# Altium integrated library Proto-Pi.Library.IntLib: 31 symbols
Pins are listed as number, name and electrical type; pins without a type are passive.

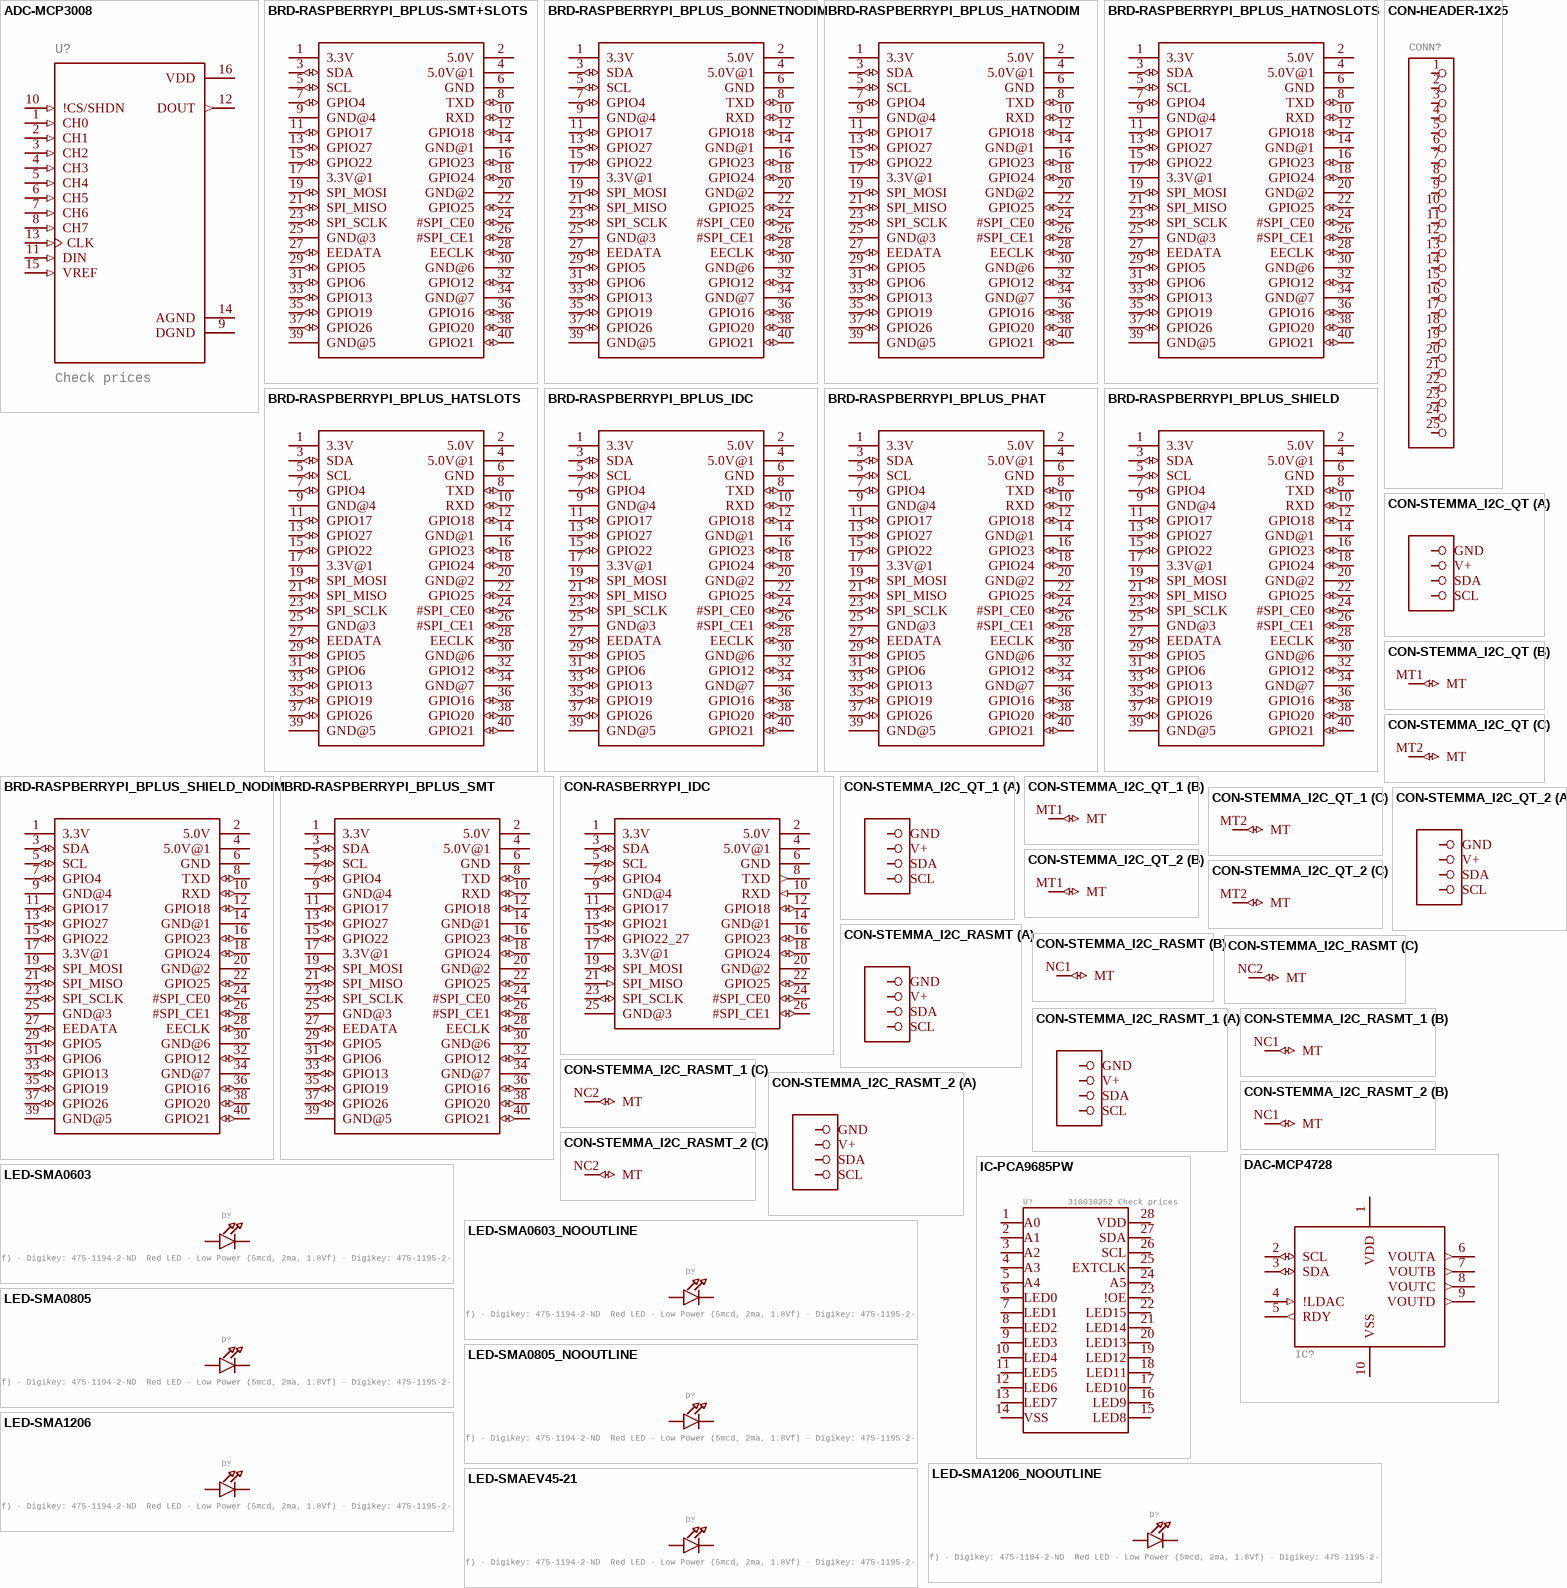
[diagram p0: symbols ADC-MCP3008 to LED-SMAEV45-21]

## ADC-MCP3008
designator U?, comment Check prices
GateName_1: A; SymbolName_1: MCP3008-I/SL; DeviceSetName: ADC-MCP3008; LibraryName: Proto-Pi; Package: SOIC127P600X175-16N; ARROW_PN: ?; DATASHEET: ?; DIGI-KEY_PN: ?; MANUFACTURER: ?; MOUSER_PN: ?; PACKAGE: ?; PART_NUMBER: ?; TEMP_HIGH: ?; TEMP_LOW: ?; TOLERANCE: ?; TYPE: ?; WEIGHT_MG: ?
footprint SOIC127P600X175-16N
pins: 1 CH0 (in), 2 CH1 (in), 3 CH2 (in), 4 CH3 (in), 5 CH4 (in), 6 CH5 (in), 7 CH6 (in), 8 CH7 (in), 9 DGND (power), 10 !CS/SHDN (in), 11 DIN (in), 12 DOUT (out), 13 CLK (in), 14 AGND (power), 15 VREF (in), 16 VDD (power)

## BRD-RASPBERRYPI_BPLUS-SMT+SLOTS
designator RPI?
GateName_1: G$1; SymbolName_1: RASPBERRYPI_BPLUS; DeviceName: -SMT+SLOTS; DeviceSetName: BRD-RASPBERRYPI_BPLUS; LibraryName: Proto-Pi; Package: PI_HAT_SMT_SLOTS
footprint PI_HAT_SMT_SLOTS
pins: 1 3.3V (power), 2 5.0V (power), 3 SDA (io), 4 5.0V@1 (power), 5 SCL (io), 6 GND (power), 7 GPIO4 (io), 8 TXD (io), 9 GND@4 (power), 10 RXD (io), 11 GPIO17 (io), 12 GPIO18 (io), 13 GPIO27 (io), 14 GND@1 (power), 15 GPIO22 (io), 16 GPIO23 (io), 17 3.3V@1 (power), 18 GPIO24 (io), 19 SPI_MOSI (io), 20 GND@2 (power), 21 SPI_MISO (io), 22 GPIO25 (io), 23 SPI_SCLK (io), 24 #SPI_CE0 (io), 25 GND@3 (power), 26 #SPI_CE1 (io), 27 EEDATA (io), 28 EECLK (io), 29 GPIO5 (io), 30 GND@6 (power), 31 GPIO6 (io), 32 GPIO12 (io), 33 GPIO13 (io), 34 GND@7 (power), 35 GPIO19 (io), 36 GPIO16 (io), 37 GPIO26 (io), 38 GPIO20 (io), 39 GND@5 (power), 40 GPIO21 (io)

## BRD-RASPBERRYPI_BPLUS_BONNETNODIM
designator RPI?
GateName_1: G$1; SymbolName_1: RASPBERRYPI_BPLUS; DeviceName: _BONNETNODIM; DeviceSetName: BRD-RASPBERRYPI_BPLUS; LibraryName: Proto-Pi; Package: PI_BONNET_NODIM
footprint PI_BONNET_NODIM
pins: 1 3.3V (power), 2 5.0V (power), 3 SDA (io), 4 5.0V@1 (power), 5 SCL (io), 6 GND (power), 7 GPIO4 (io), 8 TXD (io), 9 GND@4 (power), 10 RXD (io), 11 GPIO17 (io), 12 GPIO18 (io), 13 GPIO27 (io), 14 GND@1 (power), 15 GPIO22 (io), 16 GPIO23 (io), 17 3.3V@1 (power), 18 GPIO24 (io), 19 SPI_MOSI (io), 20 GND@2 (power), 21 SPI_MISO (io), 22 GPIO25 (io), 23 SPI_SCLK (io), 24 #SPI_CE0 (io), 25 GND@3 (power), 26 #SPI_CE1 (io), 27 EEDATA (io), 28 EECLK (io), 29 GPIO5 (io), 30 GND@6 (power), 31 GPIO6 (io), 32 GPIO12 (io), 33 GPIO13 (io), 34 GND@7 (power), 35 GPIO19 (io), 36 GPIO16 (io), 37 GPIO26 (io), 38 GPIO20 (io), 39 GND@5 (power), 40 GPIO21 (io)

## BRD-RASPBERRYPI_BPLUS_HATNODIM
designator RPI?
GateName_1: G$1; SymbolName_1: RASPBERRYPI_BPLUS; DeviceName: _HATNODIM; DeviceSetName: BRD-RASPBERRYPI_BPLUS; LibraryName: Proto-Pi; Package: PI_HAT_NODIM
footprint PI_HAT_NODIM
pins: 1 3.3V (power), 2 5.0V (power), 3 SDA (io), 4 5.0V@1 (power), 5 SCL (io), 6 GND (power), 7 GPIO4 (io), 8 TXD (io), 9 GND@4 (power), 10 RXD (io), 11 GPIO17 (io), 12 GPIO18 (io), 13 GPIO27 (io), 14 GND@1 (power), 15 GPIO22 (io), 16 GPIO23 (io), 17 3.3V@1 (power), 18 GPIO24 (io), 19 SPI_MOSI (io), 20 GND@2 (power), 21 SPI_MISO (io), 22 GPIO25 (io), 23 SPI_SCLK (io), 24 #SPI_CE0 (io), 25 GND@3 (power), 26 #SPI_CE1 (io), 27 EEDATA (io), 28 EECLK (io), 29 GPIO5 (io), 30 GND@6 (power), 31 GPIO6 (io), 32 GPIO12 (io), 33 GPIO13 (io), 34 GND@7 (power), 35 GPIO19 (io), 36 GPIO16 (io), 37 GPIO26 (io), 38 GPIO20 (io), 39 GND@5 (power), 40 GPIO21 (io)

## BRD-RASPBERRYPI_BPLUS_HATNOSLOTS
designator RPI?
GateName_1: G$1; SymbolName_1: RASPBERRYPI_BPLUS; DeviceName: _HATNOSLOTS; DeviceSetName: BRD-RASPBERRYPI_BPLUS; LibraryName: Proto-Pi; Package: PI_HAT_NOSLOTS
footprint PI_HAT_NOSLOTS
pins: 1 3.3V (power), 2 5.0V (power), 3 SDA (io), 4 5.0V@1 (power), 5 SCL (io), 6 GND (power), 7 GPIO4 (io), 8 TXD (io), 9 GND@4 (power), 10 RXD (io), 11 GPIO17 (io), 12 GPIO18 (io), 13 GPIO27 (io), 14 GND@1 (power), 15 GPIO22 (io), 16 GPIO23 (io), 17 3.3V@1 (power), 18 GPIO24 (io), 19 SPI_MOSI (io), 20 GND@2 (power), 21 SPI_MISO (io), 22 GPIO25 (io), 23 SPI_SCLK (io), 24 #SPI_CE0 (io), 25 GND@3 (power), 26 #SPI_CE1 (io), 27 EEDATA (io), 28 EECLK (io), 29 GPIO5 (io), 30 GND@6 (power), 31 GPIO6 (io), 32 GPIO12 (io), 33 GPIO13 (io), 34 GND@7 (power), 35 GPIO19 (io), 36 GPIO16 (io), 37 GPIO26 (io), 38 GPIO20 (io), 39 GND@5 (power), 40 GPIO21 (io)

## BRD-RASPBERRYPI_BPLUS_HATSLOTS
designator RPI?
GateName_1: G$1; SymbolName_1: RASPBERRYPI_BPLUS; DeviceName: _HATSLOTS; DeviceSetName: BRD-RASPBERRYPI_BPLUS; LibraryName: Proto-Pi; Package: PI_HAT_SLOTS
footprint PI_HAT_SLOTS
pins: 1 3.3V (power), 2 5.0V (power), 3 SDA (io), 4 5.0V@1 (power), 5 SCL (io), 6 GND (power), 7 GPIO4 (io), 8 TXD (io), 9 GND@4 (power), 10 RXD (io), 11 GPIO17 (io), 12 GPIO18 (io), 13 GPIO27 (io), 14 GND@1 (power), 15 GPIO22 (io), 16 GPIO23 (io), 17 3.3V@1 (power), 18 GPIO24 (io), 19 SPI_MOSI (io), 20 GND@2 (power), 21 SPI_MISO (io), 22 GPIO25 (io), 23 SPI_SCLK (io), 24 #SPI_CE0 (io), 25 GND@3 (power), 26 #SPI_CE1 (io), 27 EEDATA (io), 28 EECLK (io), 29 GPIO5 (io), 30 GND@6 (power), 31 GPIO6 (io), 32 GPIO12 (io), 33 GPIO13 (io), 34 GND@7 (power), 35 GPIO19 (io), 36 GPIO16 (io), 37 GPIO26 (io), 38 GPIO20 (io), 39 GND@5 (power), 40 GPIO21 (io)

## BRD-RASPBERRYPI_BPLUS_IDC
designator RPI?
GateName_1: G$1; SymbolName_1: RASPBERRYPI_BPLUS; DeviceName: _IDC; DeviceSetName: BRD-RASPBERRYPI_BPLUS; LibraryName: Proto-Pi; Package: 2X20
footprint 2X20
pins: 1 3.3V (power), 2 5.0V (power), 3 SDA (io), 4 5.0V@1 (power), 5 SCL (io), 6 GND (power), 7 GPIO4 (io), 8 TXD (io), 9 GND@4 (power), 10 RXD (io), 11 GPIO17 (io), 12 GPIO18 (io), 13 GPIO27 (io), 14 GND@1 (power), 15 GPIO22 (io), 16 GPIO23 (io), 17 3.3V@1 (power), 18 GPIO24 (io), 19 SPI_MOSI (io), 20 GND@2 (power), 21 SPI_MISO (io), 22 GPIO25 (io), 23 SPI_SCLK (io), 24 #SPI_CE0 (io), 25 GND@3 (power), 26 #SPI_CE1 (io), 27 EEDATA (io), 28 EECLK (io), 29 GPIO5 (io), 30 GND@6 (power), 31 GPIO6 (io), 32 GPIO12 (io), 33 GPIO13 (io), 34 GND@7 (power), 35 GPIO19 (io), 36 GPIO16 (io), 37 GPIO26 (io), 38 GPIO20 (io), 39 GND@5 (power), 40 GPIO21 (io)

## BRD-RASPBERRYPI_BPLUS_PHAT
designator RPI?
GateName_1: G$1; SymbolName_1: RASPBERRYPI_BPLUS; DeviceName: _PHAT; DeviceSetName: BRD-RASPBERRYPI_BPLUS; LibraryName: Proto-Pi; Package: PI_BONNET
footprint PI_BONNET
pins: 1 3.3V (power), 2 5.0V (power), 3 SDA (io), 4 5.0V@1 (power), 5 SCL (io), 6 GND (power), 7 GPIO4 (io), 8 TXD (io), 9 GND@4 (power), 10 RXD (io), 11 GPIO17 (io), 12 GPIO18 (io), 13 GPIO27 (io), 14 GND@1 (power), 15 GPIO22 (io), 16 GPIO23 (io), 17 3.3V@1 (power), 18 GPIO24 (io), 19 SPI_MOSI (io), 20 GND@2 (power), 21 SPI_MISO (io), 22 GPIO25 (io), 23 SPI_SCLK (io), 24 #SPI_CE0 (io), 25 GND@3 (power), 26 #SPI_CE1 (io), 27 EEDATA (io), 28 EECLK (io), 29 GPIO5 (io), 30 GND@6 (power), 31 GPIO6 (io), 32 GPIO12 (io), 33 GPIO13 (io), 34 GND@7 (power), 35 GPIO19 (io), 36 GPIO16 (io), 37 GPIO26 (io), 38 GPIO20 (io), 39 GND@5 (power), 40 GPIO21 (io)

## BRD-RASPBERRYPI_BPLUS_SHIELD
designator RPI?
GateName_1: G$1; SymbolName_1: RASPBERRYPI_BPLUS; DeviceName: _SHIELD; DeviceSetName: BRD-RASPBERRYPI_BPLUS; LibraryName: Proto-Pi; Package: RASPBERRYPI_BPLUS_SHIELD
footprint RASPBERRYPI_BPLUS_SHIELD
pins: 1 3.3V (power), 2 5.0V (power), 3 SDA (io), 4 5.0V@1 (power), 5 SCL (io), 6 GND (power), 7 GPIO4 (io), 8 TXD (io), 9 GND@4 (power), 10 RXD (io), 11 GPIO17 (io), 12 GPIO18 (io), 13 GPIO27 (io), 14 GND@1 (power), 15 GPIO22 (io), 16 GPIO23 (io), 17 3.3V@1 (power), 18 GPIO24 (io), 19 SPI_MOSI (io), 20 GND@2 (power), 21 SPI_MISO (io), 22 GPIO25 (io), 23 SPI_SCLK (io), 24 #SPI_CE0 (io), 25 GND@3 (power), 26 #SPI_CE1 (io), 27 EEDATA (io), 28 EECLK (io), 29 GPIO5 (io), 30 GND@6 (power), 31 GPIO6 (io), 32 GPIO12 (io), 33 GPIO13 (io), 34 GND@7 (power), 35 GPIO19 (io), 36 GPIO16 (io), 37 GPIO26 (io), 38 GPIO20 (io), 39 GND@5 (power), 40 GPIO21 (io)

## BRD-RASPBERRYPI_BPLUS_SHIELD_NODIM
designator RPI?
GateName_1: G$1; SymbolName_1: RASPBERRYPI_BPLUS; DeviceName: _SHIELD_NODIM; DeviceSetName: BRD-RASPBERRYPI_BPLUS; LibraryName: Proto-Pi; Package: RASPBERRYPI_BPLUS_SHIELD_NODIM
footprint RASPBERRYPI_BPLUS_SHIELD_NODIM
pins: 1 3.3V (power), 2 5.0V (power), 3 SDA (io), 4 5.0V@1 (power), 5 SCL (io), 6 GND (power), 7 GPIO4 (io), 8 TXD (io), 9 GND@4 (power), 10 RXD (io), 11 GPIO17 (io), 12 GPIO18 (io), 13 GPIO27 (io), 14 GND@1 (power), 15 GPIO22 (io), 16 GPIO23 (io), 17 3.3V@1 (power), 18 GPIO24 (io), 19 SPI_MOSI (io), 20 GND@2 (power), 21 SPI_MISO (io), 22 GPIO25 (io), 23 SPI_SCLK (io), 24 #SPI_CE0 (io), 25 GND@3 (power), 26 #SPI_CE1 (io), 27 EEDATA (io), 28 EECLK (io), 29 GPIO5 (io), 30 GND@6 (power), 31 GPIO6 (io), 32 GPIO12 (io), 33 GPIO13 (io), 34 GND@7 (power), 35 GPIO19 (io), 36 GPIO16 (io), 37 GPIO26 (io), 38 GPIO20 (io), 39 GND@5 (power), 40 GPIO21 (io)

## BRD-RASPBERRYPI_BPLUS_SMT
designator RPI?
GateName_1: G$1; SymbolName_1: RASPBERRYPI_BPLUS; DeviceName: _SMT; DeviceSetName: BRD-RASPBERRYPI_BPLUS; LibraryName: Proto-Pi; Package: RASPBERRYPI_BPLUS_SHIELD_SMT
footprint RASPBERRYPI_BPLUS_SHIELD_SMT
pins: 1 3.3V (power), 2 5.0V (power), 3 SDA (io), 4 5.0V@1 (power), 5 SCL (io), 6 GND (power), 7 GPIO4 (io), 8 TXD (io), 9 GND@4 (power), 10 RXD (io), 11 GPIO17 (io), 12 GPIO18 (io), 13 GPIO27 (io), 14 GND@1 (power), 15 GPIO22 (io), 16 GPIO23 (io), 17 3.3V@1 (power), 18 GPIO24 (io), 19 SPI_MOSI (io), 20 GND@2 (power), 21 SPI_MISO (io), 22 GPIO25 (io), 23 SPI_SCLK (io), 24 #SPI_CE0 (io), 25 GND@3 (power), 26 #SPI_CE1 (io), 27 EEDATA (io), 28 EECLK (io), 29 GPIO5 (io), 30 GND@6 (power), 31 GPIO6 (io), 32 GPIO12 (io), 33 GPIO13 (io), 34 GND@7 (power), 35 GPIO19 (io), 36 GPIO16 (io), 37 GPIO26 (io), 38 GPIO20 (io), 39 GND@5 (power), 40 GPIO21 (io)

## CON-HEADER-1X25
designator CONN?
GateName_1: G$1; SymbolName_1: PINHD25; DeviceSetName: CON-HEADER-1X25; LibraryName: Proto-Pi; Package: 1X25_ROUND_70MIL
footprint 1X25_ROUND_70MIL
pins: 1, 2, 3, 4, 5, 6, 7, 8, 9, 10, 11, 12, 13, 14, 15, 16, 17, 18, 19, 20, 21, 22, 23, 24, 25

## CON-RASBERRYPI_IDC
designator JP?, comment Rasberry PI IDC Header  (value not drawn)
GateName_1: G$1; SymbolName_1: RASPBERRYPI_REV_B; DeviceSetName: CON-RASBERRYPI_IDC; LibraryName: Proto-Pi; Package: RASBERRYPI_IDC
footprint RASBERRYPI_IDC
pins: 1 3.3V (power), 2 5.0V (power), 3 SDA (io), 4 5.0V@1 (power), 5 SCL (io), 6 GND (power), 7 GPIO4 (io), 8 TXD (out), 9 GND@4 (power), 10 RXD (in), 11 GPIO17 (io), 12 GPIO18 (io), 13 GPIO21 (io), 14 GND@1 (power), 15 GPIO22_27 (io), 16 GPIO23 (io), 17 3.3V@1 (power), 18 GPIO24 (io), 19 SPI_MOSI (io), 20 GND@2 (power), 21 SPI_MISO (in), 22 GPIO25 (io), 23 SPI_SCLK (io), 24 #SPI_CE0 (io), 25 GND@3 (power), 26 #SPI_CE1 (io)

## CON-STEMMA_I2C_QT
designator CONN?
GateName_1: G$1; SymbolName_1: STEMMA_I2C; GateName_2: G$2; SymbolName_2: MOUNTING; GateName_3: G$3; DeviceName: _QT; DeviceSetName: CON-STEMMA_I2C; SymbolName_3: MOUNTING; LibraryName: Proto-Pi; Package: JST_SH4
footprint JST_SH4
part A pins: 1 GND, 2 V+, 3 SDA, 4 SCL
part B pins: MT1 MT (io)
part C pins: MT2 MT (io)

## CON-STEMMA_I2C_QT_1
designator CONN?
GateName_1: G$1; SymbolName_1: STEMMA_I2C; GateName_2: G$2; SymbolName_2: MOUNTING; GateName_3: G$3; DeviceName: _QT; DeviceSetName: CON-STEMMA_I2C; SymbolName_3: MOUNTING; LibraryName: Proto-Pi; Package: JST_SH4
footprint JST_SH4
part A pins: 1 GND, 2 V+, 3 SDA, 4 SCL
part B pins: MT1 MT (io)
part C pins: MT2 MT (io)

## CON-STEMMA_I2C_QT_2
designator CONN?
GateName_1: G$1; SymbolName_1: STEMMA_I2C; GateName_2: G$2; SymbolName_2: MOUNTING; GateName_3: G$3; DeviceName: _QT; DeviceSetName: CON-STEMMA_I2C; SymbolName_3: MOUNTING; LibraryName: Proto-Pi; Package: JST_SH4
footprint JST_SH4
part A pins: 1 GND, 2 V+, 3 SDA, 4 SCL
part B pins: MT1 MT (io)
part C pins: MT2 MT (io)

## CON-STEMMA_I2C_RASMT
designator CONN?
GateName_1: G$1; SymbolName_1: STEMMA_I2C; GateName_2: G$2; SymbolName_2: MOUNTING; GateName_3: G$3; DeviceName: _RASMT; DeviceSetName: CON-STEMMA_I2C; SymbolName_3: MOUNTING; LibraryName: Proto-Pi; Package: JSTPH4
footprint JSTPH4
part A pins: 1 GND, 2 V+, 3 SDA, 4 SCL
part B pins: NC1 MT (io)
part C pins: NC2 MT (io)

## CON-STEMMA_I2C_RASMT_1
designator CONN?
GateName_1: G$1; SymbolName_1: STEMMA_I2C; GateName_2: G$2; SymbolName_2: MOUNTING; GateName_3: G$3; DeviceName: _RASMT; DeviceSetName: CON-STEMMA_I2C; SymbolName_3: MOUNTING; LibraryName: Proto-Pi; Package: JSTPH4
footprint JSTPH4
part A pins: 1 GND, 2 V+, 3 SDA, 4 SCL
part B pins: NC1 MT (io)
part C pins: NC2 MT (io)

## CON-STEMMA_I2C_RASMT_2
designator CONN?
GateName_1: G$1; SymbolName_1: STEMMA_I2C; GateName_2: G$2; SymbolName_2: MOUNTING; GateName_3: G$3; DeviceName: _RASMT; DeviceSetName: CON-STEMMA_I2C; SymbolName_3: MOUNTING; LibraryName: Proto-Pi; Package: JSTPH4
footprint JSTPH4
part A pins: 1 GND, 2 V+, 3 SDA, 4 SCL
part B pins: NC1 MT (io)
part C pins: NC2 MT (io)

## DAC-MCP4728
designator IC?
GateName_1: G$1; SymbolName_1: MCP4728; DeviceSetName: DAC-MCP4728; LibraryName: Proto-Pi; Package: MSOP10; ARROW_PN: ?; DATASHEET: ?; DIGI-KEY_PN: ?; MANUFACTURER: ?; MOUSER_PN: ?; PACKAGE: ?; PART_NUMBER: ?; TEMP_HIGH: ?; TEMP_LOW: ?; TOLERANCE: ?; TYPE: ?; WEIGHT_MG: ?
footprint MSOP10
pins: 1 VDD (power), 2 SCL (io), 3 SDA (io), 4 !LDAC (in), 5 RDY (out), 6 VOUTA (out), 7 VOUTB (out), 8 VOUTC (out), 9 VOUTD (out), 10 VSS (power)

## IC-PCA9685PW
designator U?, comment 310030252 Check prices
GateName_1: G$1; SymbolName_1: DRIVER-PCA9685PW; DeviceSetName: IC-PCA9685PW; LibraryName: Proto-Pi; Package: TSSOP28-0.65-9.7X4.4MM; ARROW_PN: ?; DATASHEET: ?; DIGI-KEY_PN: ?; MANUFACTURER: ?; MOUSER_PN: ?; PACKAGE: ?; PART_NUMBER: ?; TEMP_HIGH: ?; TEMP_LOW: ?; TOLERANCE: ?; TYPE: ?; WEIGHT_MG: ?
footprint TSSOP28-0.65-9.7X4.4MM
pins: 1 A0 (io), 2 A1 (io), 3 A2 (io), 4 A3 (io), 5 A4 (io), 6 LED0 (io), 7 LED1 (io), 8 LED2 (io), 9 LED3 (io), 10 LED4 (io), 11 LED5 (io), 12 LED6 (io), 13 LED7 (io), 14 VSS (io), 15 LED8 (io), 16 LED9 (io), 17 LED10 (io), 18 LED11 (io), 19 LED12 (io), 20 LED13 (io), 21 LED14 (io), 22 LED15 (io), 23 !OE (io), 24 A5 (io), 25 EXTCLK (io), 26 SCL (io), 27 SDA (io), 28 VDD (io)

## LED-SMA0603
designator D?, comment LED0603 - 0603 Surface Mount Package    2mA: Green LED - Low Power (3.9mcd, 2ma, 1.7Vf) - Digikey: 475-2709-2-ND  Orange LED - Low Power (9.8mcd, 2ma, 1.8Vf) - Digikey: 475-1194-2-ND  Red LED - Low Power (5mcd, 2ma, 1.8Vf) - Digikey: 475-1195-2-ND  Yellow LED - Low Power (7mcd, 2ma, 1.8Vf) - Digikey: 475-1196-2-ND       5mA: Blue LED - Low Power (17mcd, 5ma, 2.9Vf) - Digikey: LNJ937W8CRACT-ND    0805 - 0805 Surface Mount Package    2mA: Red LED (8.8mcd, 2mA, 1.8Vf, Clear) - Low Power [Digikey: 475-2510-1-ND]  Green LED (5mcd, 2mA, 1.8Vf, Clear) - Low Power [Digikey: 475-2730-1-ND]  Yellow LED (11.3mcd, 2mA, 1.8Vf, Clear) - Low Power [Digikey: 475-2555-1-ND]       20mA: Red LED (104mcd, 20mA, Diffused) - LS R976 [Digikey: 475-1278-6-ND]  Red LED (12mcd, 20mA, 2.0Vf, Clear) - APT2012EC [Digikey: 754-1128-1-ND]  Green LED (15mcd, 20mA, 2.2Vf, Clear) - APT2012GC [Digikey: 754-1131-1-ND]  Orange LED (160mcd, 20mA, 2.1Vf, Clear) - APT2012SECK [Digikey: 754-1130-1-ND]     1206 - 1206 Surface Mount Package  Green LED (26mcd, 20mA, Diffused) - LG N971  [Digikey: 475-1407-6-ND]  Red LED (15mcd, 20mA, Diffused) - LH N974 [Digikey: 475-1416-6-ND]     Cree - Cree High-Power Surface Mount LEDs  XPEBWT-L1-0000-00D50 - White 111lm 350mA 2.9Vf 6200K 110Â°  XTEAWT-00-0000-00000LEE3 - White 114lm 350mA 2.85Vf 5000K 115Â°     Everlight - Everlight 45-21 Series Surface Mount LEDs  45-21/QK2C-B2832AC2CB2/2T - Warm White 2000mcd 20mA 3.25Vf 3050K 120Â°  45-21/LK2C-B38452C4CB2/2T - Nuetral White 2000mcd 20mA 3.25Vf 4150K 120Â°  45-21/LK2C-B50634C6CB2/2T - Cold White 2200mcd 20mA 3.25Vf 5650K 120Â°     PLCC2 Reverse Mount LS T77K-J1L2-1-0-2-R18-Z - Red 11.25mcd 2mA 1.8Vf 630nm 120Â°  LO T77K-L1M2-24-Z - Orange 19.6mcd 2mA 1.8Vf 606nm 120Â°  LY T77K-K2M1-26-Z - Yellow 15.7mcd 2mA 1.8Vf 587nm 120Â°
GateName_1: G$1; DeviceName: 0603; DeviceSetName: LED-SMA; SymbolName_1: LED; LibraryName: Proto-Pi; Package: CHIPLED_0603
footprint CHIPLED_0603
pins: A, C

## LED-SMA0603_NOOUTLINE
designator D?, comment LED0603 - 0603 Surface Mount Package    2mA: Green LED - Low Power (3.9mcd, 2ma, 1.7Vf) - Digikey: 475-2709-2-ND  Orange LED - Low Power (9.8mcd, 2ma, 1.8Vf) - Digikey: 475-1194-2-ND  Red LED - Low Power (5mcd, 2ma, 1.8Vf) - Digikey: 475-1195-2-ND  Yellow LED - Low Power (7mcd, 2ma, 1.8Vf) - Digikey: 475-1196-2-ND       5mA: Blue LED - Low Power (17mcd, 5ma, 2.9Vf) - Digikey: LNJ937W8CRACT-ND    0805 - 0805 Surface Mount Package    2mA: Red LED (8.8mcd, 2mA, 1.8Vf, Clear) - Low Power [Digikey: 475-2510-1-ND]  Green LED (5mcd, 2mA, 1.8Vf, Clear) - Low Power [Digikey: 475-2730-1-ND]  Yellow LED (11.3mcd, 2mA, 1.8Vf, Clear) - Low Power [Digikey: 475-2555-1-ND]       20mA: Red LED (104mcd, 20mA, Diffused) - LS R976 [Digikey: 475-1278-6-ND]  Red LED (12mcd, 20mA, 2.0Vf, Clear) - APT2012EC [Digikey: 754-1128-1-ND]  Green LED (15mcd, 20mA, 2.2Vf, Clear) - APT2012GC [Digikey: 754-1131-1-ND]  Orange LED (160mcd, 20mA, 2.1Vf, Clear) - APT2012SECK [Digikey: 754-1130-1-ND]     1206 - 1206 Surface Mount Package  Green LED (26mcd, 20mA, Diffused) - LG N971  [Digikey: 475-1407-6-ND]  Red LED (15mcd, 20mA, Diffused) - LH N974 [Digikey: 475-1416-6-ND]     Cree - Cree High-Power Surface Mount LEDs  XPEBWT-L1-0000-00D50 - White 111lm 350mA 2.9Vf 6200K 110Â°  XTEAWT-00-0000-00000LEE3 - White 114lm 350mA 2.85Vf 5000K 115Â°     Everlight - Everlight 45-21 Series Surface Mount LEDs  45-21/QK2C-B2832AC2CB2/2T - Warm White 2000mcd 20mA 3.25Vf 3050K 120Â°  45-21/LK2C-B38452C4CB2/2T - Nuetral White 2000mcd 20mA 3.25Vf 4150K 120Â°  45-21/LK2C-B50634C6CB2/2T - Cold White 2200mcd 20mA 3.25Vf 5650K 120Â°     PLCC2 Reverse Mount LS T77K-J1L2-1-0-2-R18-Z - Red 11.25mcd 2mA 1.8Vf 630nm 120Â°  LO T77K-L1M2-24-Z - Orange 19.6mcd 2mA 1.8Vf 606nm 120Â°  LY T77K-K2M1-26-Z - Yellow 15.7mcd 2mA 1.8Vf 587nm 120Â°
GateName_1: G$1; DeviceName: 0603_NOOUTLINE; DeviceSetName: LED-SMA; SymbolName_1: LED; LibraryName: Proto-Pi; Package: CHIPLED_0603_NOOUTLINE
footprint CHIPLED_0603_NOOUTLINE
pins: A, C

## LED-SMA0805
designator D?, comment LED0603 - 0603 Surface Mount Package    2mA: Green LED - Low Power (3.9mcd, 2ma, 1.7Vf) - Digikey: 475-2709-2-ND  Orange LED - Low Power (9.8mcd, 2ma, 1.8Vf) - Digikey: 475-1194-2-ND  Red LED - Low Power (5mcd, 2ma, 1.8Vf) - Digikey: 475-1195-2-ND  Yellow LED - Low Power (7mcd, 2ma, 1.8Vf) - Digikey: 475-1196-2-ND       5mA: Blue LED - Low Power (17mcd, 5ma, 2.9Vf) - Digikey: LNJ937W8CRACT-ND    0805 - 0805 Surface Mount Package    2mA: Red LED (8.8mcd, 2mA, 1.8Vf, Clear) - Low Power [Digikey: 475-2510-1-ND]  Green LED (5mcd, 2mA, 1.8Vf, Clear) - Low Power [Digikey: 475-2730-1-ND]  Yellow LED (11.3mcd, 2mA, 1.8Vf, Clear) - Low Power [Digikey: 475-2555-1-ND]       20mA: Red LED (104mcd, 20mA, Diffused) - LS R976 [Digikey: 475-1278-6-ND]  Red LED (12mcd, 20mA, 2.0Vf, Clear) - APT2012EC [Digikey: 754-1128-1-ND]  Green LED (15mcd, 20mA, 2.2Vf, Clear) - APT2012GC [Digikey: 754-1131-1-ND]  Orange LED (160mcd, 20mA, 2.1Vf, Clear) - APT2012SECK [Digikey: 754-1130-1-ND]     1206 - 1206 Surface Mount Package  Green LED (26mcd, 20mA, Diffused) - LG N971  [Digikey: 475-1407-6-ND]  Red LED (15mcd, 20mA, Diffused) - LH N974 [Digikey: 475-1416-6-ND]     Cree - Cree High-Power Surface Mount LEDs  XPEBWT-L1-0000-00D50 - White 111lm 350mA 2.9Vf 6200K 110Â°  XTEAWT-00-0000-00000LEE3 - White 114lm 350mA 2.85Vf 5000K 115Â°     Everlight - Everlight 45-21 Series Surface Mount LEDs  45-21/QK2C-B2832AC2CB2/2T - Warm White 2000mcd 20mA 3.25Vf 3050K 120Â°  45-21/LK2C-B38452C4CB2/2T - Nuetral White 2000mcd 20mA 3.25Vf 4150K 120Â°  45-21/LK2C-B50634C6CB2/2T - Cold White 2200mcd 20mA 3.25Vf 5650K 120Â°     PLCC2 Reverse Mount LS T77K-J1L2-1-0-2-R18-Z - Red 11.25mcd 2mA 1.8Vf 630nm 120Â°  LO T77K-L1M2-24-Z - Orange 19.6mcd 2mA 1.8Vf 606nm 120Â°  LY T77K-K2M1-26-Z - Yellow 15.7mcd 2mA 1.8Vf 587nm 120Â°
GateName_1: G$1; DeviceName: 0805; DeviceSetName: LED-SMA; SymbolName_1: LED; LibraryName: Proto-Pi; Package: CHIPLED_0805
footprint CHIPLED_0805
pins: A, C

## LED-SMA0805_NOOUTLINE
designator D?, comment LED0603 - 0603 Surface Mount Package    2mA: Green LED - Low Power (3.9mcd, 2ma, 1.7Vf) - Digikey: 475-2709-2-ND  Orange LED - Low Power (9.8mcd, 2ma, 1.8Vf) - Digikey: 475-1194-2-ND  Red LED - Low Power (5mcd, 2ma, 1.8Vf) - Digikey: 475-1195-2-ND  Yellow LED - Low Power (7mcd, 2ma, 1.8Vf) - Digikey: 475-1196-2-ND       5mA: Blue LED - Low Power (17mcd, 5ma, 2.9Vf) - Digikey: LNJ937W8CRACT-ND    0805 - 0805 Surface Mount Package    2mA: Red LED (8.8mcd, 2mA, 1.8Vf, Clear) - Low Power [Digikey: 475-2510-1-ND]  Green LED (5mcd, 2mA, 1.8Vf, Clear) - Low Power [Digikey: 475-2730-1-ND]  Yellow LED (11.3mcd, 2mA, 1.8Vf, Clear) - Low Power [Digikey: 475-2555-1-ND]       20mA: Red LED (104mcd, 20mA, Diffused) - LS R976 [Digikey: 475-1278-6-ND]  Red LED (12mcd, 20mA, 2.0Vf, Clear) - APT2012EC [Digikey: 754-1128-1-ND]  Green LED (15mcd, 20mA, 2.2Vf, Clear) - APT2012GC [Digikey: 754-1131-1-ND]  Orange LED (160mcd, 20mA, 2.1Vf, Clear) - APT2012SECK [Digikey: 754-1130-1-ND]     1206 - 1206 Surface Mount Package  Green LED (26mcd, 20mA, Diffused) - LG N971  [Digikey: 475-1407-6-ND]  Red LED (15mcd, 20mA, Diffused) - LH N974 [Digikey: 475-1416-6-ND]     Cree - Cree High-Power Surface Mount LEDs  XPEBWT-L1-0000-00D50 - White 111lm 350mA 2.9Vf 6200K 110Â°  XTEAWT-00-0000-00000LEE3 - White 114lm 350mA 2.85Vf 5000K 115Â°     Everlight - Everlight 45-21 Series Surface Mount LEDs  45-21/QK2C-B2832AC2CB2/2T - Warm White 2000mcd 20mA 3.25Vf 3050K 120Â°  45-21/LK2C-B38452C4CB2/2T - Nuetral White 2000mcd 20mA 3.25Vf 4150K 120Â°  45-21/LK2C-B50634C6CB2/2T - Cold White 2200mcd 20mA 3.25Vf 5650K 120Â°     PLCC2 Reverse Mount LS T77K-J1L2-1-0-2-R18-Z - Red 11.25mcd 2mA 1.8Vf 630nm 120Â°  LO T77K-L1M2-24-Z - Orange 19.6mcd 2mA 1.8Vf 606nm 120Â°  LY T77K-K2M1-26-Z - Yellow 15.7mcd 2mA 1.8Vf 587nm 120Â°
GateName_1: G$1; DeviceName: 0805_NOOUTLINE; DeviceSetName: LED-SMA; SymbolName_1: LED; LibraryName: Proto-Pi; Package: CHIPLED_0805_NOOUTLINE
footprint CHIPLED_0805_NOOUTLINE
pins: A, C

## LED-SMA1206
designator D?, comment LED0603 - 0603 Surface Mount Package    2mA: Green LED - Low Power (3.9mcd, 2ma, 1.7Vf) - Digikey: 475-2709-2-ND  Orange LED - Low Power (9.8mcd, 2ma, 1.8Vf) - Digikey: 475-1194-2-ND  Red LED - Low Power (5mcd, 2ma, 1.8Vf) - Digikey: 475-1195-2-ND  Yellow LED - Low Power (7mcd, 2ma, 1.8Vf) - Digikey: 475-1196-2-ND       5mA: Blue LED - Low Power (17mcd, 5ma, 2.9Vf) - Digikey: LNJ937W8CRACT-ND    0805 - 0805 Surface Mount Package    2mA: Red LED (8.8mcd, 2mA, 1.8Vf, Clear) - Low Power [Digikey: 475-2510-1-ND]  Green LED (5mcd, 2mA, 1.8Vf, Clear) - Low Power [Digikey: 475-2730-1-ND]  Yellow LED (11.3mcd, 2mA, 1.8Vf, Clear) - Low Power [Digikey: 475-2555-1-ND]       20mA: Red LED (104mcd, 20mA, Diffused) - LS R976 [Digikey: 475-1278-6-ND]  Red LED (12mcd, 20mA, 2.0Vf, Clear) - APT2012EC [Digikey: 754-1128-1-ND]  Green LED (15mcd, 20mA, 2.2Vf, Clear) - APT2012GC [Digikey: 754-1131-1-ND]  Orange LED (160mcd, 20mA, 2.1Vf, Clear) - APT2012SECK [Digikey: 754-1130-1-ND]     1206 - 1206 Surface Mount Package  Green LED (26mcd, 20mA, Diffused) - LG N971  [Digikey: 475-1407-6-ND]  Red LED (15mcd, 20mA, Diffused) - LH N974 [Digikey: 475-1416-6-ND]     Cree - Cree High-Power Surface Mount LEDs  XPEBWT-L1-0000-00D50 - White 111lm 350mA 2.9Vf 6200K 110Â°  XTEAWT-00-0000-00000LEE3 - White 114lm 350mA 2.85Vf 5000K 115Â°     Everlight - Everlight 45-21 Series Surface Mount LEDs  45-21/QK2C-B2832AC2CB2/2T - Warm White 2000mcd 20mA 3.25Vf 3050K 120Â°  45-21/LK2C-B38452C4CB2/2T - Nuetral White 2000mcd 20mA 3.25Vf 4150K 120Â°  45-21/LK2C-B50634C6CB2/2T - Cold White 2200mcd 20mA 3.25Vf 5650K 120Â°     PLCC2 Reverse Mount LS T77K-J1L2-1-0-2-R18-Z - Red 11.25mcd 2mA 1.8Vf 630nm 120Â°  LO T77K-L1M2-24-Z - Orange 19.6mcd 2mA 1.8Vf 606nm 120Â°  LY T77K-K2M1-26-Z - Yellow 15.7mcd 2mA 1.8Vf 587nm 120Â°
GateName_1: G$1; DeviceName: 1206; DeviceSetName: LED-SMA; SymbolName_1: LED; LibraryName: Proto-Pi; Package: CHIPLED_1206
footprint CHIPLED_1206
pins: A, C

## LED-SMA1206_NOOUTLINE
designator D?, comment LED0603 - 0603 Surface Mount Package    2mA: Green LED - Low Power (3.9mcd, 2ma, 1.7Vf) - Digikey: 475-2709-2-ND  Orange LED - Low Power (9.8mcd, 2ma, 1.8Vf) - Digikey: 475-1194-2-ND  Red LED - Low Power (5mcd, 2ma, 1.8Vf) - Digikey: 475-1195-2-ND  Yellow LED - Low Power (7mcd, 2ma, 1.8Vf) - Digikey: 475-1196-2-ND       5mA: Blue LED - Low Power (17mcd, 5ma, 2.9Vf) - Digikey: LNJ937W8CRACT-ND    0805 - 0805 Surface Mount Package    2mA: Red LED (8.8mcd, 2mA, 1.8Vf, Clear) - Low Power [Digikey: 475-2510-1-ND]  Green LED (5mcd, 2mA, 1.8Vf, Clear) - Low Power [Digikey: 475-2730-1-ND]  Yellow LED (11.3mcd, 2mA, 1.8Vf, Clear) - Low Power [Digikey: 475-2555-1-ND]       20mA: Red LED (104mcd, 20mA, Diffused) - LS R976 [Digikey: 475-1278-6-ND]  Red LED (12mcd, 20mA, 2.0Vf, Clear) - APT2012EC [Digikey: 754-1128-1-ND]  Green LED (15mcd, 20mA, 2.2Vf, Clear) - APT2012GC [Digikey: 754-1131-1-ND]  Orange LED (160mcd, 20mA, 2.1Vf, Clear) - APT2012SECK [Digikey: 754-1130-1-ND]     1206 - 1206 Surface Mount Package  Green LED (26mcd, 20mA, Diffused) - LG N971  [Digikey: 475-1407-6-ND]  Red LED (15mcd, 20mA, Diffused) - LH N974 [Digikey: 475-1416-6-ND]     Cree - Cree High-Power Surface Mount LEDs  XPEBWT-L1-0000-00D50 - White 111lm 350mA 2.9Vf 6200K 110Â°  XTEAWT-00-0000-00000LEE3 - White 114lm 350mA 2.85Vf 5000K 115Â°     Everlight - Everlight 45-21 Series Surface Mount LEDs  45-21/QK2C-B2832AC2CB2/2T - Warm White 2000mcd 20mA 3.25Vf 3050K 120Â°  45-21/LK2C-B38452C4CB2/2T - Nuetral White 2000mcd 20mA 3.25Vf 4150K 120Â°  45-21/LK2C-B50634C6CB2/2T - Cold White 2200mcd 20mA 3.25Vf 5650K 120Â°     PLCC2 Reverse Mount LS T77K-J1L2-1-0-2-R18-Z - Red 11.25mcd 2mA 1.8Vf 630nm 120Â°  LO T77K-L1M2-24-Z - Orange 19.6mcd 2mA 1.8Vf 606nm 120Â°  LY T77K-K2M1-26-Z - Yellow 15.7mcd 2mA 1.8Vf 587nm 120Â°
GateName_1: G$1; DeviceName: 1206_NOOUTLINE; DeviceSetName: LED-SMA; SymbolName_1: LED; LibraryName: Proto-Pi; Package: CHIPLED_1206_NOOUTLINE
footprint CHIPLED_1206_NOOUTLINE
pins: A, C

## LED-SMAEV45-21
designator D?, comment LED0603 - 0603 Surface Mount Package    2mA: Green LED - Low Power (3.9mcd, 2ma, 1.7Vf) - Digikey: 475-2709-2-ND  Orange LED - Low Power (9.8mcd, 2ma, 1.8Vf) - Digikey: 475-1194-2-ND  Red LED - Low Power (5mcd, 2ma, 1.8Vf) - Digikey: 475-1195-2-ND  Yellow LED - Low Power (7mcd, 2ma, 1.8Vf) - Digikey: 475-1196-2-ND       5mA: Blue LED - Low Power (17mcd, 5ma, 2.9Vf) - Digikey: LNJ937W8CRACT-ND    0805 - 0805 Surface Mount Package    2mA: Red LED (8.8mcd, 2mA, 1.8Vf, Clear) - Low Power [Digikey: 475-2510-1-ND]  Green LED (5mcd, 2mA, 1.8Vf, Clear) - Low Power [Digikey: 475-2730-1-ND]  Yellow LED (11.3mcd, 2mA, 1.8Vf, Clear) - Low Power [Digikey: 475-2555-1-ND]       20mA: Red LED (104mcd, 20mA, Diffused) - LS R976 [Digikey: 475-1278-6-ND]  Red LED (12mcd, 20mA, 2.0Vf, Clear) - APT2012EC [Digikey: 754-1128-1-ND]  Green LED (15mcd, 20mA, 2.2Vf, Clear) - APT2012GC [Digikey: 754-1131-1-ND]  Orange LED (160mcd, 20mA, 2.1Vf, Clear) - APT2012SECK [Digikey: 754-1130-1-ND]     1206 - 1206 Surface Mount Package  Green LED (26mcd, 20mA, Diffused) - LG N971  [Digikey: 475-1407-6-ND]  Red LED (15mcd, 20mA, Diffused) - LH N974 [Digikey: 475-1416-6-ND]     Cree - Cree High-Power Surface Mount LEDs  XPEBWT-L1-0000-00D50 - White 111lm 350mA 2.9Vf 6200K 110Â°  XTEAWT-00-0000-00000LEE3 - White 114lm 350mA 2.85Vf 5000K 115Â°     Everlight - Everlight 45-21 Series Surface Mount LEDs  45-21/QK2C-B2832AC2CB2/2T - Warm White 2000mcd 20mA 3.25Vf 3050K 120Â°  45-21/LK2C-B38452C4CB2/2T - Nuetral White 2000mcd 20mA 3.25Vf 4150K 120Â°  45-21/LK2C-B50634C6CB2/2T - Cold White 2200mcd 20mA 3.25Vf 5650K 120Â°     PLCC2 Reverse Mount LS T77K-J1L2-1-0-2-R18-Z - Red 11.25mcd 2mA 1.8Vf 630nm 120Â°  LO T77K-L1M2-24-Z - Orange 19.6mcd 2mA 1.8Vf 606nm 120Â°  LY T77K-K2M1-26-Z - Yellow 15.7mcd 2mA 1.8Vf 587nm 120Â°
GateName_1: G$1; DeviceName: EV45-21; DeviceSetName: LED-SMA; SymbolName_1: LED; LibraryName: Proto-Pi; Package: EVERLIGHT_45-21
footprint EVERLIGHT_45-21
pins: A, K C

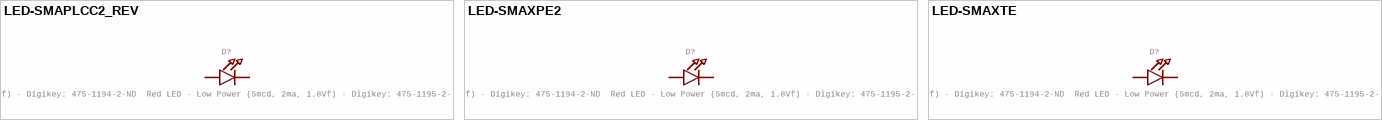
[diagram p1: symbols LED-SMAPLCC2_REV to LED-SMAXTE]

## LED-SMAPLCC2_REV
designator D?, comment LED0603 - 0603 Surface Mount Package    2mA: Green LED - Low Power (3.9mcd, 2ma, 1.7Vf) - Digikey: 475-2709-2-ND  Orange LED - Low Power (9.8mcd, 2ma, 1.8Vf) - Digikey: 475-1194-2-ND  Red LED - Low Power (5mcd, 2ma, 1.8Vf) - Digikey: 475-1195-2-ND  Yellow LED - Low Power (7mcd, 2ma, 1.8Vf) - Digikey: 475-1196-2-ND       5mA: Blue LED - Low Power (17mcd, 5ma, 2.9Vf) - Digikey: LNJ937W8CRACT-ND    0805 - 0805 Surface Mount Package    2mA: Red LED (8.8mcd, 2mA, 1.8Vf, Clear) - Low Power [Digikey: 475-2510-1-ND]  Green LED (5mcd, 2mA, 1.8Vf, Clear) - Low Power [Digikey: 475-2730-1-ND]  Yellow LED (11.3mcd, 2mA, 1.8Vf, Clear) - Low Power [Digikey: 475-2555-1-ND]       20mA: Red LED (104mcd, 20mA, Diffused) - LS R976 [Digikey: 475-1278-6-ND]  Red LED (12mcd, 20mA, 2.0Vf, Clear) - APT2012EC [Digikey: 754-1128-1-ND]  Green LED (15mcd, 20mA, 2.2Vf, Clear) - APT2012GC [Digikey: 754-1131-1-ND]  Orange LED (160mcd, 20mA, 2.1Vf, Clear) - APT2012SECK [Digikey: 754-1130-1-ND]     1206 - 1206 Surface Mount Package  Green LED (26mcd, 20mA, Diffused) - LG N971  [Digikey: 475-1407-6-ND]  Red LED (15mcd, 20mA, Diffused) - LH N974 [Digikey: 475-1416-6-ND]     Cree - Cree High-Power Surface Mount LEDs  XPEBWT-L1-0000-00D50 - White 111lm 350mA 2.9Vf 6200K 110Â°  XTEAWT-00-0000-00000LEE3 - White 114lm 350mA 2.85Vf 5000K 115Â°     Everlight - Everlight 45-21 Series Surface Mount LEDs  45-21/QK2C-B2832AC2CB2/2T - Warm White 2000mcd 20mA 3.25Vf 3050K 120Â°  45-21/LK2C-B38452C4CB2/2T - Nuetral White 2000mcd 20mA 3.25Vf 4150K 120Â°  45-21/LK2C-B50634C6CB2/2T - Cold White 2200mcd 20mA 3.25Vf 5650K 120Â°     PLCC2 Reverse Mount LS T77K-J1L2-1-0-2-R18-Z - Red 11.25mcd 2mA 1.8Vf 630nm 120Â°  LO T77K-L1M2-24-Z - Orange 19.6mcd 2mA 1.8Vf 606nm 120Â°  LY T77K-K2M1-26-Z - Yellow 15.7mcd 2mA 1.8Vf 587nm 120Â°
GateName_1: G$1; DeviceName: PLCC2_REV; DeviceSetName: LED-SMA; SymbolName_1: LED; LibraryName: Proto-Pi; Package: PLCC2_REVMOUNT
footprint PLCC2_REVMOUNT
pins: A, K C

## LED-SMAXPE2
designator D?, comment LED0603 - 0603 Surface Mount Package    2mA: Green LED - Low Power (3.9mcd, 2ma, 1.7Vf) - Digikey: 475-2709-2-ND  Orange LED - Low Power (9.8mcd, 2ma, 1.8Vf) - Digikey: 475-1194-2-ND  Red LED - Low Power (5mcd, 2ma, 1.8Vf) - Digikey: 475-1195-2-ND  Yellow LED - Low Power (7mcd, 2ma, 1.8Vf) - Digikey: 475-1196-2-ND       5mA: Blue LED - Low Power (17mcd, 5ma, 2.9Vf) - Digikey: LNJ937W8CRACT-ND    0805 - 0805 Surface Mount Package    2mA: Red LED (8.8mcd, 2mA, 1.8Vf, Clear) - Low Power [Digikey: 475-2510-1-ND]  Green LED (5mcd, 2mA, 1.8Vf, Clear) - Low Power [Digikey: 475-2730-1-ND]  Yellow LED (11.3mcd, 2mA, 1.8Vf, Clear) - Low Power [Digikey: 475-2555-1-ND]       20mA: Red LED (104mcd, 20mA, Diffused) - LS R976 [Digikey: 475-1278-6-ND]  Red LED (12mcd, 20mA, 2.0Vf, Clear) - APT2012EC [Digikey: 754-1128-1-ND]  Green LED (15mcd, 20mA, 2.2Vf, Clear) - APT2012GC [Digikey: 754-1131-1-ND]  Orange LED (160mcd, 20mA, 2.1Vf, Clear) - APT2012SECK [Digikey: 754-1130-1-ND]     1206 - 1206 Surface Mount Package  Green LED (26mcd, 20mA, Diffused) - LG N971  [Digikey: 475-1407-6-ND]  Red LED (15mcd, 20mA, Diffused) - LH N974 [Digikey: 475-1416-6-ND]     Cree - Cree High-Power Surface Mount LEDs  XPEBWT-L1-0000-00D50 - White 111lm 350mA 2.9Vf 6200K 110Â°  XTEAWT-00-0000-00000LEE3 - White 114lm 350mA 2.85Vf 5000K 115Â°     Everlight - Everlight 45-21 Series Surface Mount LEDs  45-21/QK2C-B2832AC2CB2/2T - Warm White 2000mcd 20mA 3.25Vf 3050K 120Â°  45-21/LK2C-B38452C4CB2/2T - Nuetral White 2000mcd 20mA 3.25Vf 4150K 120Â°  45-21/LK2C-B50634C6CB2/2T - Cold White 2200mcd 20mA 3.25Vf 5650K 120Â°     PLCC2 Reverse Mount LS T77K-J1L2-1-0-2-R18-Z - Red 11.25mcd 2mA 1.8Vf 630nm 120Â°  LO T77K-L1M2-24-Z - Orange 19.6mcd 2mA 1.8Vf 606nm 120Â°  LY T77K-K2M1-26-Z - Yellow 15.7mcd 2mA 1.8Vf 587nm 120Â°
GateName_1: G$1; DeviceName: XPE2; DeviceSetName: LED-SMA; SymbolName_1: LED; LibraryName: Proto-Pi; Package: CREE_XLAMP_XPE2
footprint CREE_XLAMP_XPE2
pins: ANODE A, CATHODE C

## LED-SMAXTE
designator D?, comment LED0603 - 0603 Surface Mount Package    2mA: Green LED - Low Power (3.9mcd, 2ma, 1.7Vf) - Digikey: 475-2709-2-ND  Orange LED - Low Power (9.8mcd, 2ma, 1.8Vf) - Digikey: 475-1194-2-ND  Red LED - Low Power (5mcd, 2ma, 1.8Vf) - Digikey: 475-1195-2-ND  Yellow LED - Low Power (7mcd, 2ma, 1.8Vf) - Digikey: 475-1196-2-ND       5mA: Blue LED - Low Power (17mcd, 5ma, 2.9Vf) - Digikey: LNJ937W8CRACT-ND    0805 - 0805 Surface Mount Package    2mA: Red LED (8.8mcd, 2mA, 1.8Vf, Clear) - Low Power [Digikey: 475-2510-1-ND]  Green LED (5mcd, 2mA, 1.8Vf, Clear) - Low Power [Digikey: 475-2730-1-ND]  Yellow LED (11.3mcd, 2mA, 1.8Vf, Clear) - Low Power [Digikey: 475-2555-1-ND]       20mA: Red LED (104mcd, 20mA, Diffused) - LS R976 [Digikey: 475-1278-6-ND]  Red LED (12mcd, 20mA, 2.0Vf, Clear) - APT2012EC [Digikey: 754-1128-1-ND]  Green LED (15mcd, 20mA, 2.2Vf, Clear) - APT2012GC [Digikey: 754-1131-1-ND]  Orange LED (160mcd, 20mA, 2.1Vf, Clear) - APT2012SECK [Digikey: 754-1130-1-ND]     1206 - 1206 Surface Mount Package  Green LED (26mcd, 20mA, Diffused) - LG N971  [Digikey: 475-1407-6-ND]  Red LED (15mcd, 20mA, Diffused) - LH N974 [Digikey: 475-1416-6-ND]     Cree - Cree High-Power Surface Mount LEDs  XPEBWT-L1-0000-00D50 - White 111lm 350mA 2.9Vf 6200K 110Â°  XTEAWT-00-0000-00000LEE3 - White 114lm 350mA 2.85Vf 5000K 115Â°     Everlight - Everlight 45-21 Series Surface Mount LEDs  45-21/QK2C-B2832AC2CB2/2T - Warm White 2000mcd 20mA 3.25Vf 3050K 120Â°  45-21/LK2C-B38452C4CB2/2T - Nuetral White 2000mcd 20mA 3.25Vf 4150K 120Â°  45-21/LK2C-B50634C6CB2/2T - Cold White 2200mcd 20mA 3.25Vf 5650K 120Â°     PLCC2 Reverse Mount LS T77K-J1L2-1-0-2-R18-Z - Red 11.25mcd 2mA 1.8Vf 630nm 120Â°  LO T77K-L1M2-24-Z - Orange 19.6mcd 2mA 1.8Vf 606nm 120Â°  LY T77K-K2M1-26-Z - Yellow 15.7mcd 2mA 1.8Vf 587nm 120Â°
GateName_1: G$1; DeviceName: XTE; DeviceSetName: LED-SMA; SymbolName_1: LED; LibraryName: Proto-Pi; Package: CREE_XLAMP_XTE
footprint CREE_XLAMP_XTE
pins: ANODE A, CATHODE C